# Altium footprint library MOSFET_DMP2160UFDB-7.PcbLib: 1 footprints
Each footprint in its own frame and in the unit in brackets; x right, y up, seen from the top. Pads: shape width x height; smd on the part's side, far side on the other; paste and mask are expansions set on the pad; w line width, h text height; cw(c..) or ccw(c..) is an arc to the next point about the centre after c.
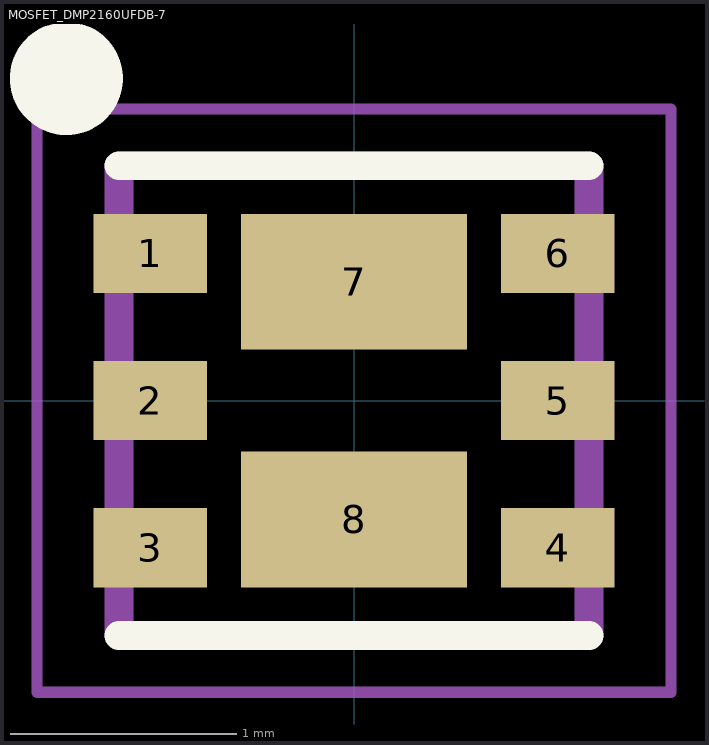
[diagram p0: the footprint, top view; thin cyan lines are the x and y axes]

## MOSFET_DMP2160UFDB-7 [mm]
pads (8):
  rect 0.5x0.35 smd: 1(-0.9,0.65) 2(-0.9,0) 3(-0.9,-0.65) 4(0.9,-0.65) 5(0.9,0) 6(0.9,0.65)
  rect 1x0.6 smd: 7(0,0.525) 8(0,-0.525)
Top Overlay:
  circle w0.3: c-1.27,1.422 r0.1
  lines w0.127: -1.038,-1.038 1.038,-1.038 ; -1.038,1.038 1.038,1.038
Mechanical 13:
  lines w0.127: -1.038,-1.038 -1.038,1.038 1.038,1.038 1.038,-1.038 -1.038,-1.038
Mechanical 15:
  lines w0.05: -1.4,-1.288 -1.4,1.288 1.4,1.288 1.4,-1.288 -1.4,-1.288
3D body "DMP2160UFDB-7.stp": height 0.61, standoff 0, extent -1,-1.025 1,0.975